# Altium schematic symbol library UJC-HP-3-SMT-TR.SchLib: 1 symbol
Pins are listed as number, name and electrical type; pins without a type are passive.

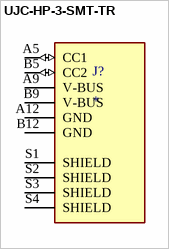
[diagram p0: symbol UJC-HP-3-SMT-TR]

## UJC-HP-3-SMT-TR
designator J?
MP: UJC-HP-3-SMT-TR; Package: None; Price: None; Value: *; Availability: Unavailable
footprint CUI_UJC-HP-3-SMT-TR
pins: A5 CC1 (io), A9 V-BUS (power), A12 GND (power), B5 CC2 (io), B9 V-BUS (power), B12 GND (power), S1 SHIELD, S2 SHIELD, S3 SHIELD, S4 SHIELD